# Altium footprint library TE-Y.PcbLib: 1 footprints
Each footprint in its own frame and in the unit in brackets; x right, y up, seen from the top. Pads: shape width x height; smd on the part's side, far side on the other; paste and mask are expansions set on the pad; w line width, h text height; cw(c..) or ccw(c..) is an arc to the next point about the centre after c.
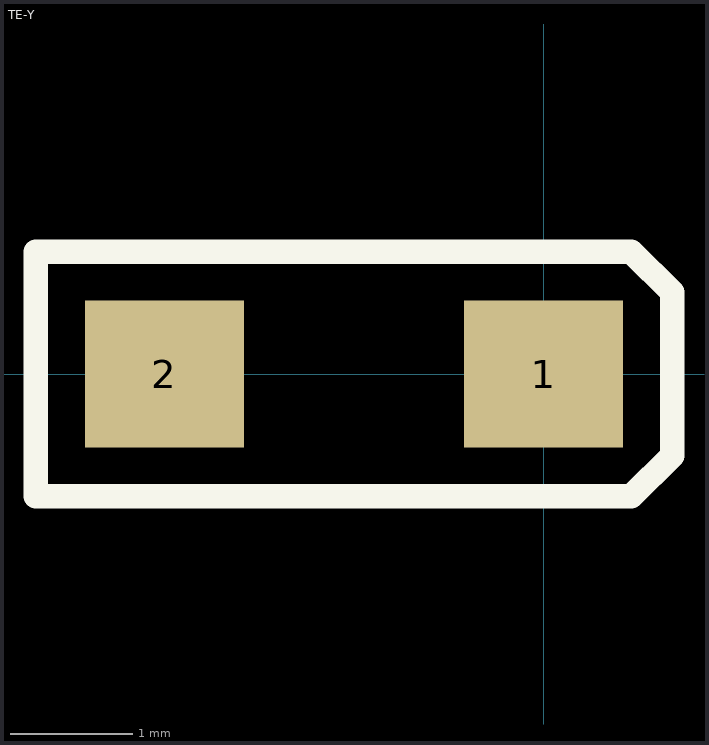
[diagram p0: the footprint, top view; thin cyan lines are the x and y axes]

## TE-Y [mm]
pads (2):
  rect 1.3x1.2 smd: 1(0,0) 2(-3.1,0)
TopOverlay:
  lines w0.2: -4.15,-1 0.717,-1 1.05,-0.667 1.05,0.667 0.717,1 -4.15,1 -4.15,0 -4.15,-1
Mechanical4:
  text ".250" at -1.55,0 h0.03